# Altium schematic symbol library 1812L050_30PR.Schlib: 1 symbol
Pins are listed as number, name and electrical type; pins without a type are passive.

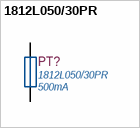
[diagram p0: symbol 1812L050/30PR]

## 1812L050/30PR
designator PT?  Hold Current: 500mA
PTC RESET FUSE 30V 500MA 1812; Manufacturer 1: Littelfuse; Max Current Rating: 100A; Resistance: 1R; Power Dissipation: 800mW; Trip Current: 1A; Time to Trip: 0.15s; Approvals: cULus,TUV; Supplier 1: Digi-Key; Manufacturer Part Number 1: 1812L050/30PR; Stock 1: 29645; Pricing 1: 1=1.00000, 5=0.97200, 10=0.90900, 50=0.75240, 100=0.62700, 250=0.61132, 500=0.51728, 1000=0.45458 (USD); RoHS: Yes; Case/Package: 1812; Case Code (Metric): 4532; Case Code (Imperial): 1812; Min Operating Temperature: -40°C; Max Operating Temperature: 85°C; Packaging: Tape and Reel; Current Rating: 100A; Package Quantity: 2000; Termination: SMD/SMT; Max Voltage Rating (DC): 30V; Working Voltage: 30V; Voltage Rating (DC): 30V; REACH SVHC: Unknown; Lead Free: Lead Free; ComponentLink1URL: https://datasheet.ciiva.com/326/littelfuse-ptc-1812l-326064.pdf?src-supplier=Digi-Key; ComponentLink1Description: https://datasheet.ciiva.com/326/littelfuse-ptc-1812l-326064.pdf?src-supplier=Digi-Key; ComponentLink2URL: https://datasheet.ciiva.com/326/littelfuse-ptc-1812l-326063.pdf?src-supplier=Digi-Key; ComponentLink2Description: https://datasheet.ciiva.com/326/littelfuse-ptc-1812l-326063.pdf?src-supplier=Digi-Key; ComponentLink3URL: https://datasheet.ciiva.com/326/littelfuse-ptc-1812l-326065.pdf?src-supplier=Digi-Key; ComponentLink3Description: https://datasheet.ciiva.com/326/littelfuse-ptc-1812l-326065.pdf?src-supplier=Digi-Key; ComponentLink4URL: https://datasheet.ciiva.com/16499/littelfuse-ptc-1812l-16499880.pdf?src-supplier=Future+Electronics; ComponentLink4Description: https://datasheet.ciiva.com/16499/littelfuse-ptc-1812l-16499880.pdf?src-supplier=Future+Electronics; ComponentLink5URL: https://datasheet.ciiva.com/12544/littelfuse-ptc-1812l-12544459.pdf?src-supplier=Mouser; ComponentLink5Description: https://datasheet.ciiva.com/12544/littelfuse-ptc-1812l-12544459.pdf?src-supplier=Mouser; Supplier Part Number 1: F4159CT-ND
footprint CH1812F (Chip Fuse, 1812)
pins: 1, 2